# EAGLE library part G5V-1-DC5 (library G5V-1)
PCB Relay, SPDT, 1A SPDT PCB Mount Non-Latching Relay PC Pin, 1 A, 5V dc Source: Datasheet <https://componentsearchengine.com/Datasheets/1/G5V-1-DC5.pdf>
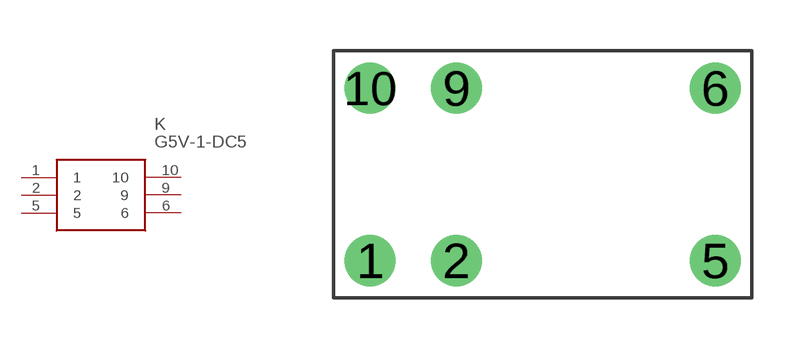
[diagram p0: symbol with the pads of G5V-1; footprint G5V-1]

Designator prefix K

## G5V-1-DC5 (Description: PCB Relay, SPDT, 1A SPDT PCB Mount Non-Latching Relay PC Pin, 1 A, 5V dc; Height: mm; Manufacturer_Name: Omron Electronics; Manufacturer_Part_Number: G5V-1-DC5; Mouser_Part_Number: 653-G5V-1-DC5; Mouser_Price-Stock: https://www.mouser.com/Search/Refine.aspx?Keyword=653-G5V-1-DC5)  [G5V-1]
1  1
2  2
5  5
6  6
9  9
10  10

## Footprint G5V-1 (pad centres in mm)
G5V-1
drill 1 pad 1.5: 1 -5.08,-2.54; 2 -2.54,-2.54; 5 5.08,-2.54; 6 5.08,2.54; 9 -2.54,2.54; 10 -5.08,2.54